# Altium schematic symbol library Schlib1.SchLib: 6 symbols
Pins are listed as number, name and electrical type; pins without a type are passive.

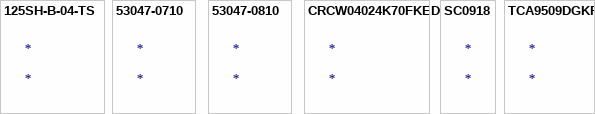
[diagram p0: symbols 125SH-B-04-TS to TCA9509DGKR]

## 125SH-B-04-TS
designator *
Conn Shrouded Header (4 Sides) PL 4 POS 1.25mm Solder ST Top Entry Thru-Hole; Manufacturer: Adam Equipment; Manufacturer Part Number: 125SH-B-04-TS; Supplier: Digikey; Supplier Part Number: 2057-125SH-B-04-TS-ND; RoHS: No; Category: Connectors; Stock: 2581; ComponentLink1URL: http://datasheet.octopart.com/125SH-B-04-TS-Adam-Tech-datasheet-110600541.pdf?src-supplier=Digikey; ComponentLink1Description: http://datasheet.octopart.com/125SH-B-04-TS-Adam-Tech-datasheet-110600541.pdf?src-supplier=Digikey; ComponentLink2URL: http://datasheet.octopart.com/125SH-B-04-TS-Adam-Tech-datasheet-110600541.pdf?src-supplier=Allied+Electronics; ComponentLink2Description: http://datasheet.octopart.com/125SH-B-04-TS-Adam-Tech-datasheet-110600541.pdf?src-supplier=Allied+Electronics; ComponentLink3URL: http://datasheet.octopart.com/125SH-B-04-TS-Adam-Tech-datasheet-110600541.pdf?src-supplier=Arrow+Electronics; ComponentLink3Description: http://datasheet.octopart.com/125SH-B-04-TS-Adam-Tech-datasheet-110600541.pdf?src-supplier=Arrow+Electronics; ComponentLink4URL: http://datasheet.octopart.com/125SH-B-04-TS-Adam-Tech-datasheet-110600541.pdf?src-supplier=Verical; ComponentLink4Description: http://datasheet.octopart.com/125SH-B-04-TS-Adam-Tech-datasheet-110600541.pdf?src-supplier=Verical; ComponentLink5URL: http://datasheet.octopart.com/125SH-B-04-TS-Adam-Tech-datasheet-110600541.pdf?src-supplier=TME; ComponentLink5Description: http://datasheet.octopart.com/125SH-B-04-TS-Adam-Tech-datasheet-110600541.pdf?src-supplier=TME

## 53047-0710
designator *
Board Connector, 7 Contact(s), 1 Row(s), Male, Straight, 0.049 inch Pitch, Solder Terminal, Locking, White Insulator, Receptacle; Manufacturer: Molex; Manufacturer Part Number: 53047-0710; Manufacturer Series: 53047; Option: General Purpose; Contact Pattern: RECTANGULAR; Contact Style: Blade Pin; Filter Feature: No; Mating Information: MULTIPLE MATING PARTS AVAILABLE; Number Of Connectors: 1; Polarization Key: POLARIZED HOUSING; Number of Contacts: 7; Body Breadth: 0.126inch; Body Depth: 0.165inch; Body Length: 0.413inch; Reference Standard: UL; Reliability: COMMERCIAL; Supplier: Arrow Electronics; Supplier Part Number: 53047-0710; RoHS: Yes; Category: Headers and Wire Housings; Stock: 529; Mounting Technology: Board; Contact Material: Bronze; Contact Finish - Mating: TIN; Contact Finish - Termination: TIN; Insulation Color: White; Insulation Material: Nylon; Connector Type: BOARD CONNECTOR; JESD-609 Code: e3; Body/Shell Style: RECEPTACLE; Contact Gender: Male; Mixed Contacts: No; Mounting Style: STRAIGHT; Number Of PCB Rows: 1; Number of Rows Loaded: 1; PCB Contact Pattern: RECTANGULAR; Termination: Solder; Mating Contact Pitch: 0.049inch; Mounting Option 1: LOCKING; Terminal Length: 0.09inch; Terminal Pitch: 1.25mm; Flammability Rating: UL94 V-0; Reach SVHC Compliant: Yes; RoHS Compliant: Yes; DIN Conformance: No; IEC Conformance: No; MIL Conformance: No; ComponentLink1URL: https://datasheet.ciiva.com:443/pdfs/VipMasterIC/IC/MOLE/MOLES14431/MOLES14431-1.pdf?src-supplier=IHS+Markit; ComponentLink1Description: https://datasheet.ciiva.com:443/pdfs/VipMasterIC/IC/MOLE/MOLES14431/MOLES14431-1.pdf?src-supplier=IHS+Markit; ComponentLink2URL: https://datasheet.ciiva.com/11747/0900766b800a8aab-11747114.pdf?src-supplier=Rs; ComponentLink2Description: https://datasheet.ciiva.com/11747/0900766b800a8aab-11747114.pdf?src-supplier=Rs

## 53047-0810
designator *
Board Connector, 8 Contact(s), 1 Row(s), Male, Straight, 0.049 inch Pitch, Solder Terminal, Locking, White Insulator, Receptacle; Manufacturer: Molex; Manufacturer Part Number: 53047-0810; Option: General Purpose; Contact Pattern: RECTANGULAR; Contact Style: Blade Pin; Filter Feature: No; Mating Information: MULTIPLE MATING PARTS AVAILABLE; Number Of Connectors: 1; Polarization Key: POLARIZED HOUSING; Number of Contacts: 8; Body Breadth: 0.126inch; Body Depth: 0.165inch; Body Length: 0.463inch; Reference Standard: UL; Reliability: COMMERCIAL; Supplier: Arrow Electronics; Supplier Part Number: 53047-0810; RoHS: Yes; Category: Headers and Wire Housings; Stock: 9991; Mounting Technology: Board; Contact Material: Bronze; Contact Finish - Mating: TIN; Contact Finish - Termination: Tin (Sn); Insulation Color: White; Insulation Material: Nylon; Connector Type: BOARD CONNECTOR; JESD-609 Code: e3; Body/Shell Style: RECEPTACLE; Contact Gender: Male; Mixed Contacts: No; Mounting Style: STRAIGHT; Number Of PCB Rows: 1; Number of Rows Loaded: 1; PCB Contact Pattern: RECTANGULAR; Termination: Solder; Mating Contact Pitch: 0.049inch; Mounting Option 1: LOCKING; Terminal Length: 0.09inch; Terminal Pitch: 1.25mm; Flammability Rating: UL94 V-0; DIN Conformance: No; IEC Conformance: No; MIL Conformance: No; Reach SVHC Compliant: Yes; RoHS Compliant: Yes; ComponentLink1URL: https://datasheet.ciiva.com:443/pdfs/VipMasterIC/IC/MOLE/MOLES57524/MOLES57524-1.pdf?src-supplier=IHS+Markit; ComponentLink1Description: https://datasheet.ciiva.com:443/pdfs/VipMasterIC/IC/MOLE/MOLES57524/MOLES57524-1.pdf?src-supplier=IHS+Markit; ComponentLink2URL: https://datasheet.ciiva.com/3936/244840530470810-pcb-headers-3936043.pdf?src-supplier=Arrow+Electronics; ComponentLink2Description: https://datasheet.ciiva.com/3936/244840530470810-pcb-headers-3936043.pdf?src-supplier=Arrow+Electronics; ComponentLink3URL: https://datasheet.ciiva.com/34303/1932504-34303339.pdf?src-supplier=Jameco; ComponentLink3Description: https://datasheet.ciiva.com/34303/1932504-34303339.pdf?src-supplier=Jameco; ComponentLink4URL: https://datasheet.ciiva.com/11747/0900766b8024e2fd-11747012.pdf?src-supplier=Rs; ComponentLink4Description: https://datasheet.ciiva.com/11747/0900766b8024e2fd-11747012.pdf?src-supplier=Rs; ComponentLink5URL: https://datasheet.ciiva.com/25291/1815828-25291355.pdf?src-supplier=Newark; ComponentLink5Description: https://datasheet.ciiva.com/25291/1815828-25291355.pdf?src-supplier=Newark; ComponentLink6URL: https://datasheet.ciiva.com/14156/ge116819-116832-e-14156239.pdf?src-supplier=Distrelec; ComponentLink6Description: https://datasheet.ciiva.com/14156/ge116819-116832-e-14156239.pdf?src-supplier=Distrelec

## CRCW04024K70FKED
designator *
Fixed Resistor, Metal Glaze/thick Film, 0.063W, 4700ohm, 50V, 1% +/-Tol, 100ppm/Cel, Surface Mount, 0402; Manufacturer: Vishay; Manufacturer Part Number: CRCW04024K70FKED; Power: 63mW; Value: 4.7kR; Temperature Coefficient (ppm/Cel): 100; Rated Temperature: 70°C; Package Height: 0.35mm; Package Length: 1mm; Package Width: 0.5mm; Reference Standard: AEC-Q200; Supplier: Arrow Electronics; Supplier Part Number: CRCW04024K70FKED; RoHS: Yes; Category: Chip SMD Resistors; Stock: 9060000; Mounting Technology: Surface Mount; Pins: 2; Terminal Finish: Nickel; Package Shape: Rectangular; Case/Package: 0402; Min Operating Temperature: -55°C; Max Operating Temperature: 155°C; Tolerance: 1%; JESD-609 Code: e3; Resistor Type: FIXED RESISTOR; Construction: Chip; Packaging: Tape and Reel; Technology: METAL GLAZE/THICK FILM; Working Voltage: 50V; Termination: Wraparound; Reach SVHC Compliant: Yes; RoHS Compliant: Yes; ComponentLink1URL: https://datasheet.ciiva.com:443/pdfs/VipMasterIC/IC/VISH/VISH-S-A0007266705/VISH-S-A0007266705-1.pdf?src-supplier=IHS+Markit; ComponentLink1Description: https://datasheet.ciiva.com:443/pdfs/VipMasterIC/IC/VISH/VISH-S-A0007266705/VISH-S-A0007266705-1.pdf?src-supplier=IHS+Markit; ComponentLink2URL: https://datasheet.ciiva.com/2463/dcrcwe3-2463034.pdf?src-supplier=Digikey; ComponentLink2Description: https://datasheet.ciiva.com/2463/dcrcwe3-2463034.pdf?src-supplier=Digikey; ComponentLink3URL: https://datasheet.ciiva.com/2463/dcrcwe3-2463035.pdf?src-supplier=Digikey; ComponentLink3Description: https://datasheet.ciiva.com/2463/dcrcwe3-2463035.pdf?src-supplier=Digikey; ComponentLink4URL: https://datasheet.ciiva.com/2463/dcrcwe3-2463036.pdf?src-supplier=Digikey; ComponentLink4Description: https://datasheet.ciiva.com/2463/dcrcwe3-2463036.pdf?src-supplier=Digikey; ComponentLink5URL: https://datasheet.ciiva.com/16764/70201119-16764281.pdf?src-supplier=Allied+Electronics; ComponentLink5Description: https://datasheet.ciiva.com/16764/70201119-16764281.pdf?src-supplier=Allied+Electronics

## SC0918
designator *
Raspberry Pi Pico W RP2040; Manufacturer Part Number: SC0918; Supplier: Digikey; Supplier Part Number: 2648-SC0918CT-ND; Manufacturer: Raspberry Pi; RoHS: No; Stock: 2771

## TCA9509DGKR
designator *
Interface Circuit, PDSO8; Manufacturer: Texas Instruments; Manufacturer Part Number: TCA9509DGKR; Package Body Material: Plastic; Channels: 1; Package Equivalence Code: TSSOP8,.19; Power Supplies: 3/5V; Max Supply Voltage: 5.5V; Min Supply Voltage: 2.7V; Qualification Status: Not Qualified; Supplier: Mouser; Supplier Part Number: 595-TCA9509DGKR; RoHS: Yes; Category: Interface ICs; Stock: 44404; Case/Package: TSSOP; Pins: 8; Package Shape: Square; Terminal Finish: Gold; Min Operating Temperature: -40°C; Max Operating Temperature: 85°C; JESD-609 Code: e4; Interface IC Type: INTERFACE CIRCUIT; JESD-30 Code: S-PDSO-G8; Moisture Sensitivity Level: 1; Package Style: SMALL OUTLINE, THIN PROFILE, SHRINK PITCHMeter; Peak Reflow Temperature (Cel): 260°C; Surface Mount: Yes; Terminal Form: Gull Wing; Terminal Position: DUAL; Length: 3mm; Width: 3mm; Height - Seated (Max): 1.1mm; Terminal Pitch: 0.65mm; Temperature Grade: INDUSTRIAL; Reach SVHC Compliant: Yes; RoHS Compliant: Yes; ComponentLink1URL: https://www.ti.com:443/lit/ds/symlink/tca9509.pdf?src-supplier=IHS+Markit; ComponentLink1Description: https://www.ti.com:443/lit/ds/symlink/tca9509.pdf?src-supplier=IHS+Markit; ComponentLink2URL: https://datasheet.ciiva.com/22791/tca9509-22791264.pdf?src-supplier=Farnell; ComponentLink2Description: https://datasheet.ciiva.com/22791/tca9509-22791264.pdf?src-supplier=Farnell; ComponentLink3URL: https://datasheet.ciiva.com/3149/tca9509-3149522.pdf?src-supplier=Avnet; ComponentLink3Description: https://datasheet.ciiva.com/3149/tca9509-3149522.pdf?src-supplier=Avnet; ComponentLink4URL: https://datasheet.ciiva.com/26911/getdatasheetpartid-476504-26911504.pdf?src-supplier=Verical; ComponentLink4Description: https://datasheet.ciiva.com/26911/getdatasheetpartid-476504-26911504.pdf?src-supplier=Verical; ComponentLink5URL: https://datasheet.ciiva.com/41460/001187989-da-01-en-ic-i2c-bus-rep-l-tca9509dgkr-vssop-8-tid-41460370.pdf?src-supplier=Conrad; ComponentLink5Description: https://datasheet.ciiva.com/41460/001187989-da-01-en-ic-i2c-bus-rep-l-tca9509dgkr-vssop-8-tid-41460370.pdf?src-supplier=Conrad; ComponentLink6URL: https://datasheet.ciiva.com/1784/tca9509-1784225.pdf?src-supplier=Digikey; ComponentLink6Description: https://datasheet.ciiva.com/1784/tca9509-1784225.pdf?src-supplier=Digikey; ComponentLink7URL: https://datasheet.ciiva.com/1784/tca9509-1784226.pdf?src-supplier=Digikey; ComponentLink7Description: https://datasheet.ciiva.com/1784/tca9509-1784226.pdf?src-supplier=Digikey; ComponentLink8URL: https://datasheet.ciiva.com/1784/tca9509-1784227.pdf?src-supplier=Digikey; ComponentLink8Description: https://datasheet.ciiva.com/1784/tca9509-1784227.pdf?src-supplier=Digikey